# Altium footprint library XM-06.PcbLib: 1 footprints
Each footprint in its own frame and in the unit in brackets; x right, y up, seen from the top. Pads: shape width x height; smd on the part's side, far side on the other; paste and mask are expansions set on the pad; w line width, h text height; cw(c..) or ccw(c..) is an arc to the next point about the centre after c.
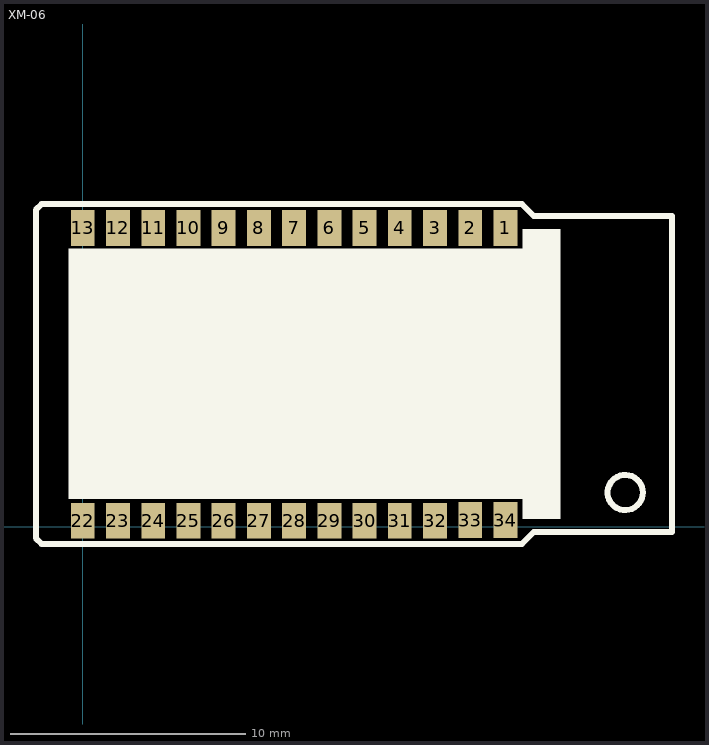
[diagram p0: the footprint, top view; thin cyan lines are the x and y axes]

## XM-06 [mil] "26 pin 1.5mm bluetooth module"
pads (26):
  rect 40x60 smd: 1(708.65,501.02) 2(649.59,501.02) 3(590.54,501.02) 4(531.48,501.02) 5(472.43,501.02) 6(413.37,501.02) 7(354.32,501.02) 8(295.26,501.02) 9(236.21,501.02) 10(177.15,501.02) 11(118.1,501.02) 12(59.04,501.02) 13(-0.01,501.02) 22(-0.01,10.11) 23(59.04,10.11) 24(118.1,10.11) 25(177.15,10.11) 26(236.21,10.11) 27(295.26,10.11) 28(354.32,10.11) 29(413.37,10.11) 30(472.43,10.11) 31(531.48,10.11) 32(590.54,10.11) 33(649.59,11.02) 34(708.65,11.02)
Top Overlay:
  circle w10: c909.45,57.28 r29.53
  rectangle: 737.09,13.02 801.09,47.02
  rectangle: 737.09,466.02 801.09,499.02
  rectangle: -23.91,46.11 801.09,466.11
  lines w10: -69.02,-28.98 -78.74,-19.26 -78.74,531.17 -68.9,541.02 736.09,541.02 756.09,521.02 988.19,521.02 988.19,-8.98 756.09,-8.98 736.09,-28.98 -68.9,-28.98